# EAGLE library part LT1308 (library Eagle_CAD_parts)
Boost, SEPIC Switching Regulator IC Positive Adjustable 1.22V 1 Output 2A (Switch) 8-SOIC (0.154", 3.90mm Width)
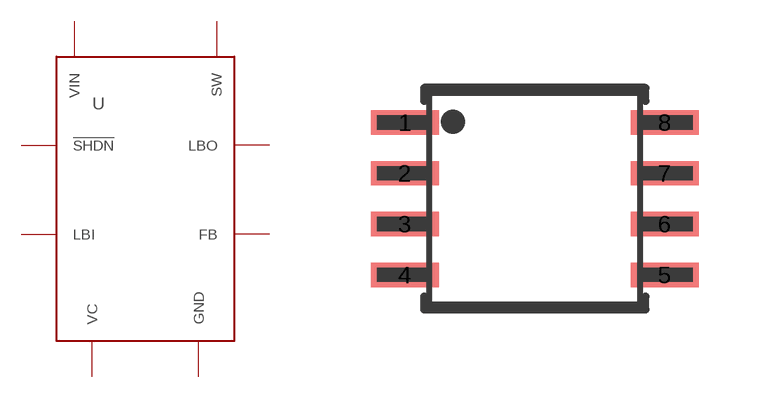
[diagram p16: symbol with the pads of 8-SOIC; footprint 8-SOIC]

Designator prefix U

## LT1308_A (DIGIKEY_PART_NUMBER: LT1308ACS8#PBF-ND; MANUFACTURER_PART_NUMBER: LT1308ACS8#PBF)  [8-SOIC]
1  VC
2  FB
3  !SHDN
4  GND
5  SW
6  VIN
7  LBI
8  LBO

## LT1308_B (DIGIKEY_PART_NUMBER: LT1308BCS8#PBF-ND; MANUFACTURER_PART_NUMBER: LT1308BCS8#PBF)  [8-SOIC]
Pads as for 8-SOIC

## Footprint 8-SOIC (pad centres in mm)
smd 1.702 x 0.61: 1 -3.251,1.905; 2 -3.251,0.635; 3 -3.251,-0.635; 4 -3.251,-1.905; 5 3.251,-1.905; 6 3.251,-0.635; 7 3.251,0.635; 8 3.251,1.905